# Altium schematic symbol library ESP8266EX.A1.SchLib: 1 symbol
Pins are listed as number, name and electrical type; pins without a type are passive.

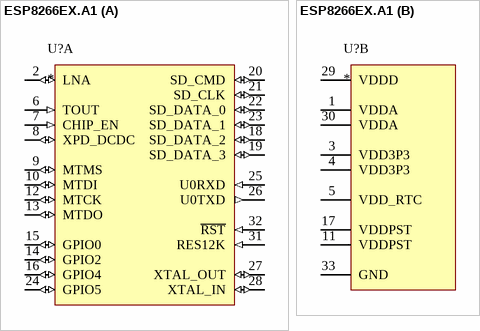
[diagram p0: symbol ESP8266EX.A1]

## ESP8266EX.A1
designator U?
part A pins: 2 LNA (io), 6 TOUT (in), 7 CHIP_EN (in), 8 XPD_DCDC (io), 9 MTMS (io), 10 MTDI (io), 12 MTCK (io), 13 MTDO (io), 14 GPIO2 (io), 15 GPIO0 (io), 16 GPIO4 (io), 18 SD_DATA_2 (io), 19 SD_DATA_3 (io), 20 SD_CMD (io), 21 SD_CLK (io), 22 SD_DATA_0 (io), 23 SD_DATA_1 (io), 24 GPIO5 (io), 25 U0RXD (in), 26 U0TXD (out), 27 XTAL_OUT (io), 28 XTAL_IN (io), 31 RES12K (in), 32 ~{RST} (in)
part B pins: 1 VDDA (power), 3 VDD3P3 (power), 4 VDD3P3 (power), 5 VDD_RTC (power), 11 VDDPST (power), 17 VDDPST (power), 29 VDDD (power), 30 VDDA (power), 33 GND (power)